# Altium footprint library RC0201FR-0710KL.PcbLib: 1 footprints
Each footprint in its own frame and in the unit in brackets; x right, y up, seen from the top. Pads: shape width x height; smd on the part's side, far side on the other; paste and mask are expansions set on the pad; w line width, h text height; cw(c..) or ccw(c..) is an arc to the next point about the centre after c.
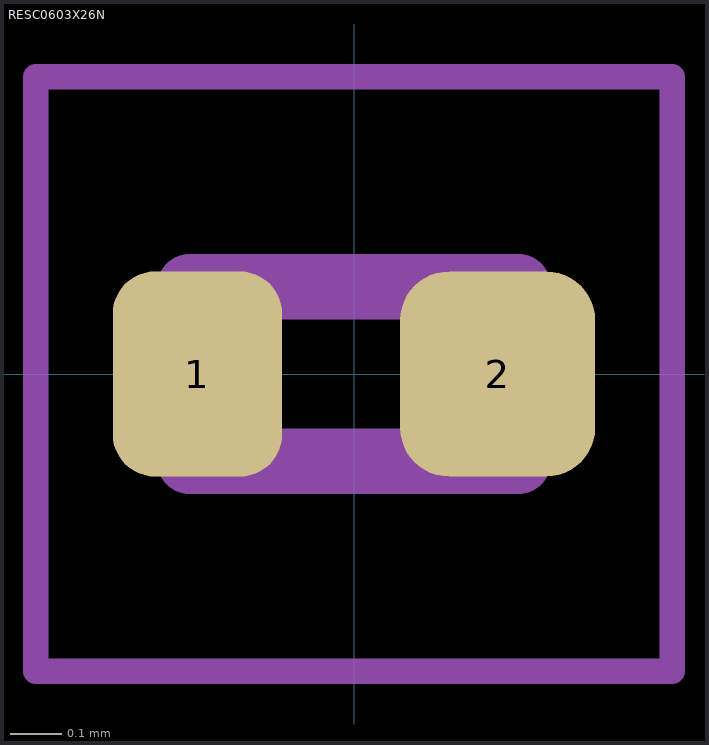
[diagram p0: the footprint, top view; thin cyan lines are the x and y axes]

## RESC0603X26N [mm]
pads (2):
  rrect50% 0.33x0.4 smd: 1(-0.305,0)
  rrect50% 0.38x0.4 smd: 2(0.28,0)
Mechanical 13:
  lines w0.127: -0.32,-0.17 0.32,-0.17 0.32,0.17 -0.32,0.17 -0.32,-0.17
Mechanical 15:
  lines w0.05: -0.62,-0.579 0.62,-0.579 0.62,0.579 -0.62,0.579 -0.62,-0.579